# Altium schematic symbol library TPS7A0215PDQNR.SchLib: 2 symbols
Pins are listed as number, name and electrical type; pins without a type are passive.

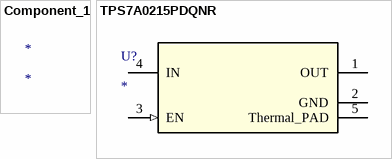
[diagram p0: symbols Component_1 to TPS7A0215PDQNR]

## Component_1
designator *

## TPS7A0215PDQNR
designator U?
No Description Available; Mfr_Name: Texas Instruments; TYPE: TYPE; RefDes: RefDes
footprint DQN0004A-MFG
pins: 1 OUT (power), 2 GND (power), 3 EN (in), 4 IN (power), 5 Thermal_PAD